# EAGLE library part LCD-HD44780-CONNECTOR (library Oles komponentbibliotek)
Connector for a character LCD module based on the Hitachi HD44780.
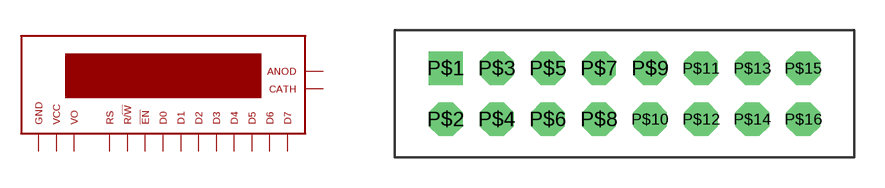
[diagram p27: symbol with the pads of HEADER_8X2; footprint HEADER_8X2]

Designator prefix -

## LCD-HD44780-CONNECTOR  [HEADER_8X2]
P$1  GND  pwr
P$2  VCC  pwr
P$3  VO  pwr
P$4  RS  in
P$5  !RW  in
P$6  !EN  in
P$7  D0
P$8  D1
P$9  D2
P$10  D3
P$11  D4
P$12  D5
P$13  D6
P$14  D7
P$15  AN  pwr
P$16  CA  pwr

## Footprint HEADER_8X2 (pad centres in mm)
8x2 pin header with 0.1" pin distances.
drill 0.8 pad 1.676 square: P$1 -8.89,1.27
drill 0.8 pad 1.676 octagon: P$2 -8.89,-1.27; P$3 -6.35,1.27; P$4 -6.35,-1.27; P$5 -3.81,1.27; P$6 -3.81,-1.27; P$7 -1.27,1.27; P$8 -1.27,-1.27; P$9 1.27,1.27; P$10 1.27,-1.27; P$11 3.81,1.27; P$12 3.81,-1.27; P$13 6.35,1.27; P$14 6.35,-1.27; P$15 8.89,1.27; P$16 8.89,-1.27